# Altium schematic symbol library Buzzer.Schlib: 1 symbol
Pins are listed as number, name and electrical type; pins without a type are passive.

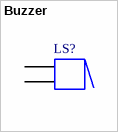
[diagram p0: symbol Buzzer]

## Buzzer
designator LS?
Magnetic Transducer Buzzer
pins: 1, 1A, 2, 2A
1 alternate drawing of the same symbol